# EAGLE library part EPM240M100 (library altera)
EPM240M100 Low-cost, low-power CPLD Auto generated by make-symbol-device-package-bsdl.ulp Rev. 36 Source: EPM240M100.BSD
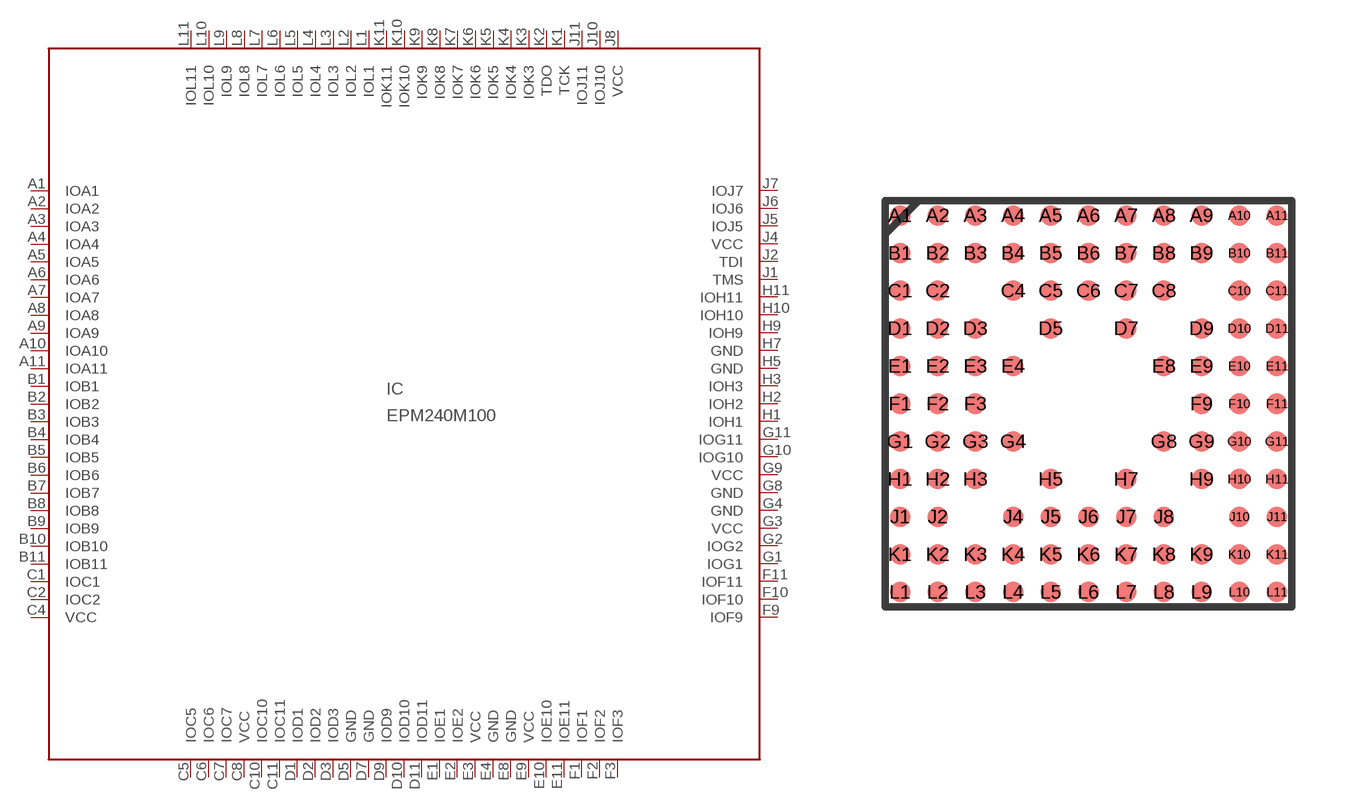
[diagram p54: symbol with the pads of MBGA100; footprint MBGA100]

Designator prefix IC

## EPM240M100 (MPN: EPM240M100C4N; OC_FARNELL: 1635095; OC_NEWARK: 51R0493)  [MBGA100]
A1  IOA1
A2  IOA2
A3  IOA3
A4  IOA4
A5  IOA5
A6  IOA6
A7  IOA7
A8  IOA8
A9  IOA9
A10  IOA10
A11  IOA11
B1  IOB1
B2  IOB2
B3  IOB3
B4  IOB4
B5  IOB5
B6  IOB6
B7  IOB7
B8  IOB8
B9  IOB9
B10  IOB10
B11  IOB11
C1  IOC1
C2  IOC2
C4  VCC  pwr
C5  IOC5
C6  IOC6
C7  IOC7
C8  VCC  pwr
C10  IOC10
C11  IOC11
D1  IOD1
D2  IOD2
D3  IOD3
D5  GND  pwr
D7  GND  pwr
D9  IOD9
D10  IOD10
D11  IOD11
E1  IOE1
E2  IOE2
E3  VCC  pwr
E4  GND  pwr
E8  GND  pwr
E9  VCC  pwr
E10  IOE10
E11  IOE11
F1  IOF1
F2  IOF2
F3  IOF3
F9  IOF9
F10  IOF10
F11  IOF11
G1  IOG1
G2  IOG2
G3  VCC  pwr
G4  GND  pwr
G8  GND  pwr
G9  VCC  pwr
G10  IOG10
G11  IOG11
H1  IOH1
H2  IOH2
H3  IOH3
H5  GND  pwr
H7  GND  pwr
H9  IOH9
H10  IOH10
H11  IOH11
J1  TMS  in
J2  TDI  in
J4  VCC  pwr
J5  IOJ5
J6  IOJ6
J7  IOJ7
J8  VCC  pwr
J10  IOJ10
J11  IOJ11
K1  TCK  in
K2  TDO  out
K3  IOK3
K4  IOK4
K5  IOK5
K6  IOK6
K7  IOK7
K8  IOK8
K9  IOK9
K10  IOK10
K11  IOK11
L1  IOL1
L2  IOL2
L3  IOL3
L4  IOL4
L5  IOL5
L6  IOL6
L7  IOL7
L8  IOL8
L9  IOL9
L10  IOL10
L11  IOL11

## Footprint MBGA100 (pad centres in mm)
EPM240M100 edit this description Auto generated by make-symbol-device-package-bsdl.ulp Rev. 36 Source: EPM240M100.BSD
smd 0.55 x 0.55: A1 -5,5; A2 -4,5; A3 -3,5; A4 -2,5; A5 -1,5; A6 0,5; A7 1,5; A8 2,5; A9 3,5; A10 4,5; A11 5,5; B1 -5,4; B2 -4,4; B3 -3,4; B4 -2,4; B5 -1,4; B6 0,4; B7 1,4; B8 2,4; B9 3,4; B10 4,4; B11 5,4; C1 -5,3; C2 -4,3; C4 -2,3; C5 -1,3; C6 0,3; C7 1,3; C8 2,3; C10 4,3; C11 5,3; D1 -5,2; D2 -4,2; D3 -3,2; D5 -1,2; D7 1,2; D9 3,2; D10 4,2; D11 5,2; E1 -5,1; E2 -4,1; E3 -3,1; E4 -2,1; E8 2,1; E9 3,1; E10 4,1; E11 5,1; F1 -5,0; F2 -4,0; F3 -3,0; F9 3,0; F10 4,0; F11 5,0; G1 -5,-1; G2 -4,-1; G3 -3,-1; G4 -2,-1; G8 2,-1; G9 3,-1; G10 4,-1; G11 5,-1; H1 -5,-2; H2 -4,-2; H3 -3,-2; H5 -1,-2; H7 1,-2; H9 3,-2; H10 4,-2; H11 5,-2; J1 -5,-3; J2 -4,-3; J4 -2,-3; J5 -1,-3; J6 0,-3; J7 1,-3; J8 2,-3; J10 4,-3; J11 5,-3; K1 -5,-4; K2 -4,-4; K3 -3,-4; K4 -2,-4; K5 -1,-4; K6 0,-4; K7 1,-4; K8 2,-4; K9 3,-4; K10 4,-4; K11 5,-4; L1 -5,-5; L2 -4,-5; L3 -3,-5; L4 -2,-5; L5 -1,-5; L6 0,-5; L7 1,-5; L8 2,-5; L9 3,-5; L10 4,-5; L11 5,-5